# EAGLE library part OPTOCOUPLER_6N138 (library PHOBOS-lbr)
MOTOROLA OPTO COUPLER
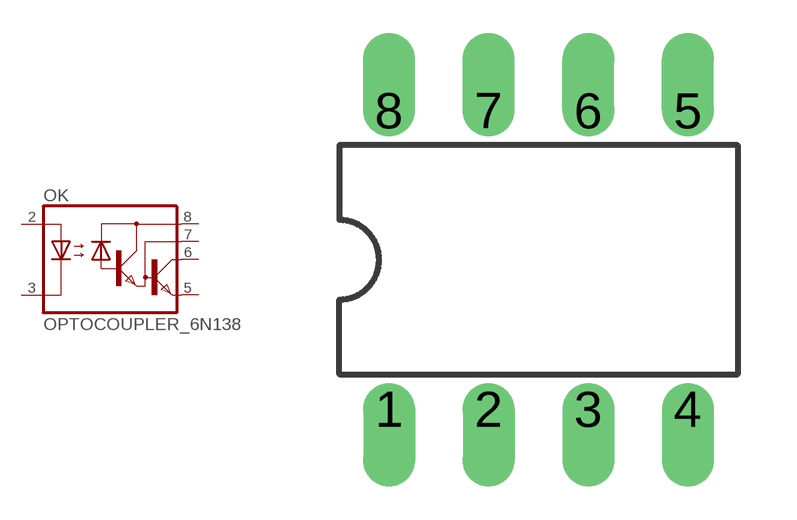
[diagram p2: symbol with the pads of OPTOCOUPLER_DIL08; footprint OPTOCOUPLER_DIL08]

Designator prefix OK

## OPTOCOUPLER_6N138  [OPTOCOUPLER_DIL08]
2  A  pas
3  C  pas
5  GND  pas
6  VO  pas
7  VB  pas
8  VCC  pas

## Footprint OPTOCOUPLER_DIL08 (pad centres in mm)
Dual In Line Package
drill 0.813 offset: 1 -3.81,-3.81; 2 -1.27,-3.81; 3 1.27,-3.81; 4 3.81,-3.81; 5 3.81,3.81; 6 1.27,3.81; 7 -1.27,3.81; 8 -3.81,3.81